# EAGLE library part AT97SC3205 (library everykey)
Atmel TPM IC
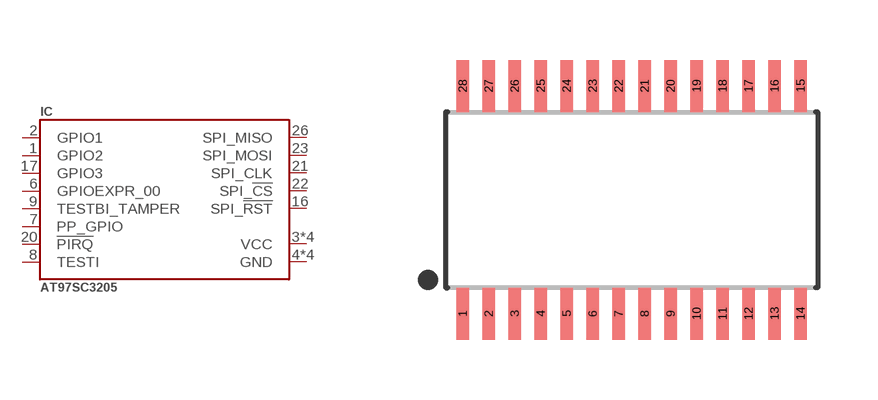
[diagram p88: symbol with the pads of TSSOP28-0.65; footprint TSSOP28-0.65]

Designator prefix IC

## AT97SC3205-TSSOP28  [TSSOP28-0.65]
1  GPIO2
2  GPIO1
3  VCC  pwr
4  GND  pwr
6  GPIOEXPR_00
7  PP_GPIO
8  TESTI
9  TESTBI_TAMPER
10  VCC  pwr
11  GND  pwr
16  SPI_!RST
17  GPIO3
18  GND  pwr
19  VCC  pwr
20  !PIRQ
21  SPI_CLK
22  SPI_!CS
23  SPI_MOSI
24  VCC  pwr
25  GND  pwr
26  SPI_MISO

## Footprint TSSOP28-0.65 (pad centres in mm)
Thin shrunk small outline package, 28 pads, 0.65 pitch, 4.4mm body width
smd 0.31 x 1.3: 1 -4.225,-2.85; 2 -3.575,-2.85; 3 -2.925,-2.85; 4 -2.275,-2.85; 5 -1.625,-2.85; 6 -0.975,-2.85; 7 -0.325,-2.85; 8 0.325,-2.85; 9 0.975,-2.85; 10 1.625,-2.85; 11 2.275,-2.85; 12 2.925,-2.85; 13 3.575,-2.85; 14 4.225,-2.85; 15 4.225,2.85; 16 3.575,2.85; 17 2.925,2.85; 18 2.275,2.85; 19 1.625,2.85; 20 0.975,2.85; 21 0.325,2.85; 22 -0.325,2.85; 23 -0.975,2.85; 24 -1.625,2.85; 25 -2.275,2.85; 26 -2.925,2.85; 27 -3.575,2.85; 28 -4.225,2.85